# Altium integrated library ON Semi Schottky Diodes & Schottky Rectifiers.IntLib: 755 symbols (part 6 of 17)
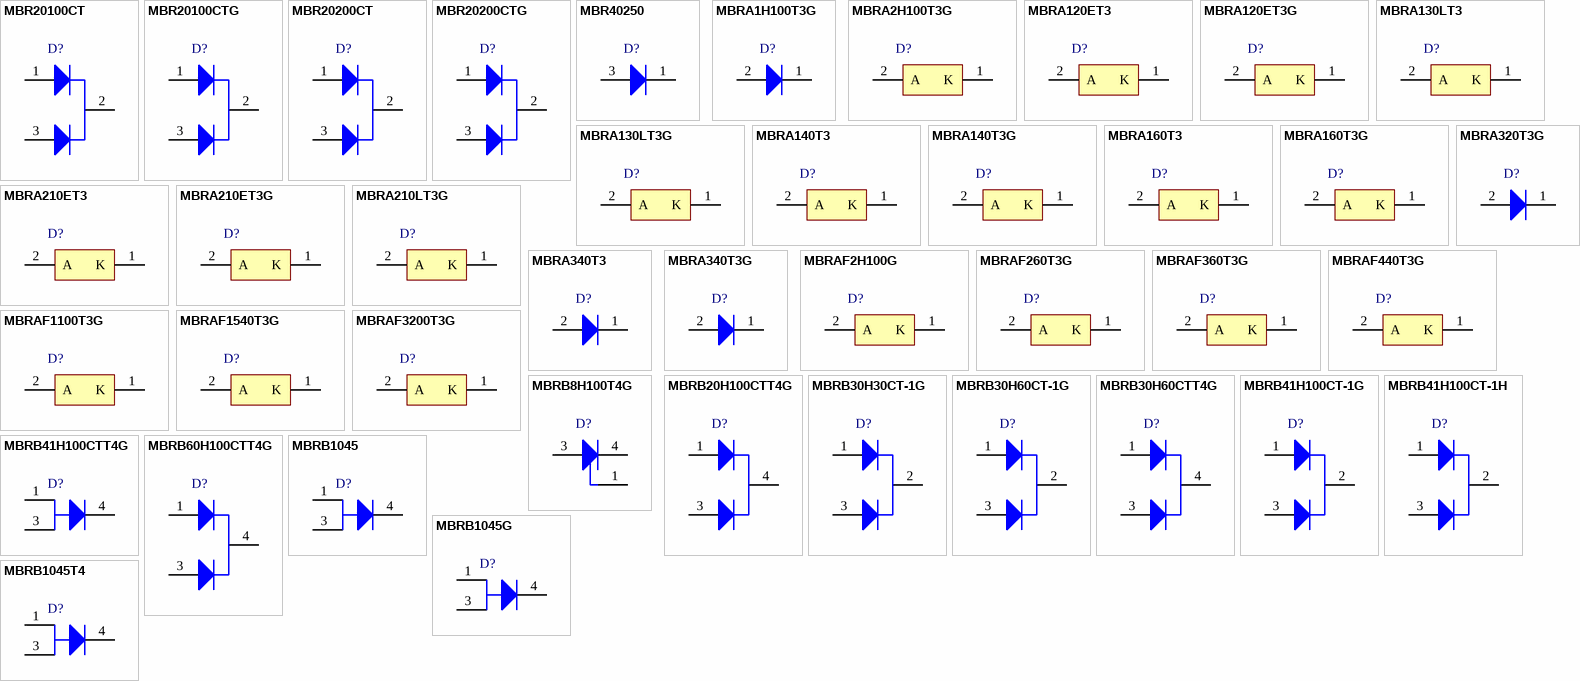
[diagram p24: symbols MBR20100CT to MBRB1045T4]

## MBRA130LT3G
designator D?
Schottky Power Rectifier, 2-Pin SMA, Pb-Free, Tape and Reel; Manufacturer: On Semiconductor; PartNumber: MBRA130LT3G; Configuration: Single; IFSM Max (A): 25; DatasheetVersion: Rev. 8; PackageVersion: Rev. F, 11/2008; PackageReference: SMA-2-403D-02_F; PackageDescription: 2-Pin Small Molded Package, J-Bend Lead, Body 2.605 x 4.315 mm; Supplier 1: Digi-Key; Supplier Part Number 1: MBRA130LT3GOSTR-ND; Supplier 2: Digi-Key; Supplier Part Number 2: MBRA130LT3GOSCT-ND; Supplier 3: Digi-Key; Supplier Part Number 3: MBRA130LT3GOSDKR-ND; Supplier 4: Farnell; Supplier Part Number 4: 9555978; Supplier 5: Farnell; Supplier Part Number 5: 9555978RL; Supplier 6: Newark; Supplier Part Number 6: 83H7265; Supplier 7: Newark; Supplier Part Number 7: 67R1304; Supplier 8: Mouser; Supplier Part Number 8: 863-MBRA130LT3G; Packing: Tape and Reel; RoHS: TRUE; Mounting Technology: Surface Mount; ComponentLink1Description: Manufacturer URL; ComponentLink1URL: http://www.onsemi.com/; ComponentLink2Description: Datasheet; ComponentLink2URL: http://www.onsemi.cn/pub_link/Collateral/MBRA130LT3-D.PDF; ComponentLink3Description: Package Specification; ComponentLink3URL: http://www.onsemi.com/pub_link/Collateral/1SMA5913BT3-D.PDF
footprint ONSC-SMA-2-403D-02_F_V (Molded, 2-Leads, Body 4.32x2.6mm)
pins: 1 K, 2 A

## MBRA140T3
designator D?
Schottky Power Rectifier, 2-Pin SMA, Tape and Reel; Manufacturer: On Semiconductor; PartNumber: MBRA140T3; Configuration: Single; IFSM Max (A): 30; DatasheetVersion: Rev. 10; PackageVersion: Rev. G, 07/2012; PackageReference: SMA-2-403D-02; PackageDescription: 2-Pin Small Molded Package, J-Bend Lead, Body 2.605 x 4.315 mm; Supplier 1: Digi-Key; Supplier Part Number 1: MBRA140T3OSCT-ND; Supplier 2: Digi-Key; Supplier Part Number 2: MBRA140T3OSDKR-ND; Packing: Tape and Reel; RoHS: FALSE; Mounting Technology: Surface Mount; ComponentLink1Description: Manufacturer URL; ComponentLink1URL: http://www.onsemi.com/; ComponentLink2Description: Datasheet; ComponentLink2URL: http://www.onsemi.cn/pub_link/Collateral/MBRA140T3-D.PDF; ComponentLink3Description: Package Specification; ComponentLink3URL: http://www.onsemi.com/pub_link/Collateral/403D-02.PDF
footprint ONSC-SMA-2-403D-02_V (Molded, 2-Leads, Body 4.57x2.92mm)
pins: 1 K, 2 A

## MBRA140T3G
designator D?
Schottky Power Rectifier, 2-Pin SMA, Pb-Free, Tape and Reel; Manufacturer: On Semiconductor; PartNumber: MBRA140T3G; Configuration: Single; IFSM Max (A): 30; DatasheetVersion: Rev. 10; PackageVersion: Rev. G, 07/2012; PackageReference: SMA-2-403D-02; PackageDescription: 2-Pin Small Molded Package, J-Bend Lead, Body 2.605 x 4.315 mm; Supplier 1: Digi-Key; Supplier Part Number 1: MBRA140T3GOSTR-ND; Supplier 2: Digi-Key; Supplier Part Number 2: MBRA140T3GOSCT-ND; Supplier 3: Digi-Key; Supplier Part Number 3: MBRA140T3GOSDKR-ND; Supplier 4: Farnell; Supplier Part Number 4: 1562287; Supplier 5: Farnell; Supplier Part Number 5: 9555986RL; Supplier 6: Farnell; Supplier Part Number 6: 9555986; Supplier 7: Newark; Supplier Part Number 7: 83H7266; Supplier 8: Newark; Supplier Part Number 8: 67R1305; Supplier 9: Mouser; Supplier Part Number 9: 863-MBRA140T3G; Packing: Tape and Reel; RoHS: TRUE; Mounting Technology: Surface Mount; ComponentLink1Description: Manufacturer URL; ComponentLink1URL: http://www.onsemi.com/; ComponentLink2Description: Datasheet; ComponentLink2URL: http://www.onsemi.cn/pub_link/Collateral/MBRA140T3-D.PDF; ComponentLink3Description: Package Specification; ComponentLink3URL: http://www.onsemi.com/pub_link/Collateral/403D-02.PDF
footprint ONSC-SMA-2-403D-02_V (Molded, 2-Leads, Body 4.57x2.92mm)
pins: 1 K, 2 A

## MBRA160T3
designator D?
Schottky Power Rectifier, 2-Pin SMA, Tape and Reel; Manufacturer: On Semiconductor; PartNumber: MBRA160T3; Note: 0; Configuration: Single; IFSM Max (A): 60; DatasheetVersion: Rev. 11; PackageVersion: Rev. G, 07/2012; PackageReference: SMA-2-403D-02; PackageDescription: 2-Pin Small Molded Package, J-Bend Lead, Body 2.605 x 4.315 mm; Packing: Tape and Reel; RoHS: FALSE; Mounting Technology: Surface Mount; ComponentLink1Description: Manufacturer URL; ComponentLink1URL: http://www.onsemi.com/; ComponentLink2Description: Datasheet; ComponentLink2URL: http://www.onsemi.cn/pub_link/Collateral/MBRA160T3-D.PDF; ComponentLink3Description: Package Specification; ComponentLink3URL: http://www.onsemi.com/pub_link/Collateral/403D-02.PDF
footprint ONSC-SMA-2-403D-02_V (Molded, 2-Leads, Body 4.57x2.92mm)
pins: 1 K, 2 A

## MBRA160T3G
designator D?
Schottky Power Rectifier, 2-Pin SMA, Pb-Free, Tape and Reel; Manufacturer: On Semiconductor; PartNumber: MBRA160T3G; Configuration: Single; IFSM Max (A): 60; DatasheetVersion: Rev. 11; PackageVersion: Rev. G, 07/2012; PackageReference: SMA-2-403D-02; PackageDescription: 2-Pin Small Molded Package, J-Bend Lead, Body 2.605 x 4.315 mm; Supplier 1: Digi-Key; Supplier Part Number 1: MBRA160T3GOSTR-ND; Supplier 2: Digi-Key; Supplier Part Number 2: MBRA160T3GOSCT-ND; Supplier 3: Digi-Key; Supplier Part Number 3: MBRA160T3GOSDKR-ND; Supplier 4: Farnell; Supplier Part Number 4: 1431076RL; Supplier 5: Farnell; Supplier Part Number 5: 2317684; Supplier 6: Farnell; Supplier Part Number 6: 1431076; Supplier 7: Newark; Supplier Part Number 7: 67R1306; Supplier 8: Newark; Supplier Part Number 8: 98H0582; Supplier 9: Mouser; Supplier Part Number 9: 863-MBRA160T3G; Packing: Tape and Reel; RoHS: TRUE; Mounting Technology: Surface Mount; ComponentLink1Description: Manufacturer URL; ComponentLink1URL: http://www.onsemi.com/; ComponentLink2Description: Datasheet; ComponentLink2URL: http://www.onsemi.cn/pub_link/Collateral/MBRA160T3-D.PDF; ComponentLink3Description: Package Specification; ComponentLink3URL: http://www.onsemi.com/pub_link/Collateral/403D-02.PDF
footprint ONSC-SMA-2-403D-02_V (Molded, 2-Leads, Body 4.57x2.92mm)
pins: 1 K, 2 A

## MBRA210ET3
designator D?
Schottky Power Rectifier, 2-Pin SMA, Tape and Reel; Manufacturer: On Semiconductor; PartNumber: MBRA210ET3; Configuration: Single; IFSM Max (A): 100; DatasheetVersion: Rev. 6; PackageVersion: Rev. D, 10/2007; PackageReference: SMA-2-403D-02_D; PackageDescription: 2-Pin Small Molded Package, J-Bend Lead, Body 4.315 x 2.605 mm; Supplier 1: Digi-Key; Supplier Part Number 1: MBRA210ET3OS-ND; Packing: Tape and Reel; RoHS: FALSE; Mounting Technology: Surface Mount; ComponentLink1Description: Manufacturer URL; ComponentLink1URL: http://www.onsemi.com/; ComponentLink2Description: Datasheet; ComponentLink2URL: http://www.onsemi.cn/pub_link/Collateral/MBRA210ET3-D.PDF; ComponentLink3Description: Package Specification; ComponentLink3URL: http://www.onsemi.cn/pub_link/Collateral/MBRA210ET3-D.PDF
footprint ONSC-SMA-2-403D-02_D_V (Molded, 2-Leads, Body 4.57x2.92mm)
pins: 1 K, 2 A

## MBRA210ET3G
designator D?
Schottky Power Rectifier, 2-Pin SMA, Pb-Free, Tape and Reel; Manufacturer: On Semiconductor; PartNumber: MBRA210ET3G; Configuration: Single; IFSM Max (A): 100; DatasheetVersion: Rev. 6; PackageVersion: Rev. D, 10/2007; PackageReference: SMA-2-403D-02_D; PackageDescription: 2-Pin Small Molded Package, J-Bend Lead, Body 4.315 x 2.605 mm; Supplier 1: Digi-Key; Supplier Part Number 1: MBRA210ET3GOSTR-ND; Supplier 2: Digi-Key; Supplier Part Number 2: MBRA210ET3GOSCT-ND; Supplier 3: Digi-Key; Supplier Part Number 3: MBRA210ET3GOSDKR-ND; Supplier 4: Farnell; Supplier Part Number 4: 1431077RL; Supplier 5: Farnell; Supplier Part Number 5: 1431077; Supplier 6: Newark; Supplier Part Number 6: 41K9970; Supplier 7: Mouser; Supplier Part Number 7: 863-MBRA210ET3G; Packing: Tape and Reel; RoHS: TRUE; Mounting Technology: Surface Mount; ComponentLink1Description: Manufacturer URL; ComponentLink1URL: http://www.onsemi.com/; ComponentLink2Description: Datasheet; ComponentLink2URL: http://www.onsemi.cn/pub_link/Collateral/MBRA210ET3-D.PDF; ComponentLink3Description: Package Specification; ComponentLink3URL: http://www.onsemi.cn/pub_link/Collateral/MBRA210ET3-D.PDF
footprint ONSC-SMA-2-403D-02_D_V (Molded, 2-Leads, Body 4.57x2.92mm)
pins: 1 K, 2 A

## MBRA210LT3G
designator D?
Schottky Power Rectifier, 2-Pin SMA, Pb-Free, Tape and Reel; Manufacturer: On Semiconductor; PartNumber: MBRA210LT3G; Configuration: Single; IFSM Max (A): 160; DatasheetVersion: Rev. 5; PackageVersion: Rev. F, 11/2008; PackageReference: SMA-2-403D-02_F; PackageDescription: 2-Pin Small Molded Package, J-Bend Lead, Body 2.605 x 4.315 mm; Supplier 1: Digi-Key; Supplier Part Number 1: MBRA210LT3GOSTR-ND; Supplier 2: Digi-Key; Supplier Part Number 2: MBRA210LT3GOSCT-ND; Supplier 3: Digi-Key; Supplier Part Number 3: MBRA210LT3GOSDKR-ND; Supplier 4: Farnell; Supplier Part Number 4: 1459060; Supplier 5: Farnell; Supplier Part Number 5: 1459060RL; Supplier 6: Newark; Supplier Part Number 6: 45J0773; Supplier 7: Mouser; Supplier Part Number 7: 863-MBRA210LT3G; Packing: Tape and Reel; RoHS: TRUE; Mounting Technology: Surface Mount; ComponentLink1Description: Manufacturer URL; ComponentLink1URL: http://www.onsemi.com/; ComponentLink2Description: Datasheet; ComponentLink2URL: http://www.onsemi.cn/pub_link/Collateral/MBRA210LT3-D.PDF; ComponentLink3Description: Package Specification; ComponentLink3URL: http://www.onsemi.com/pub_link/Collateral/1SMA5913BT3-D.PDF
footprint ONSC-SMA-2-403D-02_F_V (Molded, 2-Leads, Body 4.32x2.6mm)
pins: 1 K, 2 A

## MBRA320T3G
designator D?
Schottky Power Rectifier, 2-Pin SMA, Pb-Free, Tape and Reel; Manufacturer: On Semiconductor; PartNumber: MBRA320T3G; Configuration: Single; IFSM Max (A): 80; DatasheetVersion: Rev. 0; PackageVersion: Rev. C, 08/2005; PackageReference: SMA-2-403D-02_C; PackageDescription: 2-Pin Small Molded Package, J-Bend Lead, Body 4.315 x 2.605 mm; Supplier 1: Digi-Key; Supplier Part Number 1: MBRA320T3GOSTR-ND; Supplier 2: Digi-Key; Supplier Part Number 2: MBRA320T3GOSCT-ND; Supplier 3: Digi-Key; Supplier Part Number 3: MBRA320T3GOSDKR-ND; Supplier 4: Farnell; Supplier Part Number 4: 2101200; Supplier 5: Newark; Supplier Part Number 5: 95M6589; Supplier 6: Mouser; Supplier Part Number 6: 863-MBRA320T3G; Packing: Tape and Reel; RoHS: TRUE; Mounting Technology: Surface Mount; ComponentLink1Description: Manufacturer URL; ComponentLink1URL: http://www.onsemi.com/; ComponentLink2Description: Datasheet; ComponentLink2URL: http://www.onsemi.cn/pub_link/Collateral/MBRA320-D.PDF; ComponentLink3Description: Package Specification; ComponentLink3URL: http://www.onsemi.com/pub_link/Collateral/MBRA320-D.PDF
footprint ONSC-SMA-2-403D-02_C_V (Molded, 2-Leads, Body 4.57x2.92mm)
pins: 1 K, 2 A

## MBRA340T3
designator D?
Schottky Power Rectifier, 2-Pin SMA, Tape and Reel; Manufacturer: On Semiconductor; PartNumber: MBRA340T3; Configuration: Single; IFSM Max (A): 100; DatasheetVersion: Rev. 6; PackageVersion: Rev. F, 11/2008; PackageReference: SMA-2-403D-02_F; PackageDescription: 2-Pin Small Molded Package, J-Bend Lead, Body 2.605 x 4.315 mm; Supplier 1: Digi-Key; Supplier Part Number 1: MBRA340T3OSTR-ND; Supplier 2: Digi-Key; Supplier Part Number 2: MBRA340T3OSCT-ND; Supplier 3: Digi-Key; Supplier Part Number 3: MBRA340T3OSDKR-ND; Packing: Tape and Reel; RoHS: FALSE; Mounting Technology: Surface Mount; ComponentLink1Description: Manufacturer URL; ComponentLink1URL: http://www.onsemi.com/; ComponentLink2Description: Datasheet; ComponentLink2URL: http://www.onsemi.cn/pub_link/Collateral/MBRA340T3-D.PDF; ComponentLink3Description: Package Specification; ComponentLink3URL: http://www.onsemi.com/pub_link/Collateral/1SMA5913BT3-D.PDF
footprint ONSC-SMA-2-403D-02_F_V (Molded, 2-Leads, Body 4.32x2.6mm)
pins: 1 K, 2 A

## MBRA340T3G
designator D?
Schottky Power Rectifier, 2-Pin SMA, Pb-Free, Tape and Reel; Manufacturer: On Semiconductor; PartNumber: MBRA340T3G; Configuration: Single; IFSM Max (A): 100; DatasheetVersion: Rev. 6; PackageVersion: Rev. F, 11/2008; PackageReference: SMA-2-403D-02_F; PackageDescription: 2-Pin Small Molded Package, J-Bend Lead, Body 2.605 x 4.315 mm; Supplier 1: Digi-Key; Supplier Part Number 1: MBRA340T3GOSTR-ND; Supplier 2: Digi-Key; Supplier Part Number 2: MBRA340T3GOSCT-ND; Supplier 3: Digi-Key; Supplier Part Number 3: MBRA340T3GOSDKR-ND; Supplier 4: Farnell; Supplier Part Number 4: 1431078; Supplier 5: Farnell; Supplier Part Number 5: 1431078RL; Supplier 6: Farnell; Supplier Part Number 6: 2317677; Supplier 7: Newark; Supplier Part Number 7: 45J0774; Supplier 8: Newark; Supplier Part Number 8: 67R1307; Supplier 9: Newark; Supplier Part Number 9: 28X7852; Supplier 10: Mouser; Supplier Part Number 10: 863-MBRA340T3G; Packing: Tape and Reel; RoHS: TRUE; Mounting Technology: Surface Mount; ComponentLink1Description: Manufacturer URL; ComponentLink1URL: http://www.onsemi.com/; ComponentLink2Description: Datasheet; ComponentLink2URL: http://www.onsemi.cn/pub_link/Collateral/MBRA340T3-D.PDF; ComponentLink3Description: Package Specification; ComponentLink3URL: http://www.onsemi.com/pub_link/Collateral/1SMA5913BT3-D.PDF
footprint ONSC-SMA-2-403D-02_F_V (Molded, 2-Leads, Body 4.32x2.6mm)
pins: 1 K, 2 A

## MBRAF2H100G
designator D?
Schottky Power Rectifier, 2-Pin SMA, Pb-Free, Tape and Reel; Manufacturer: On Semiconductor; PartNumber: MBRAF2H100G; Note: 0; Configuration: Single; IFSM Max (A): 130; DatasheetVersion: Rev. 0; PackageVersion: Rev. O, 03/2011; PackageReference: SMA-FL-2-403AA-01; PackageDescription: 2-Pin Small Molded Package, Body 2.6 x 4.3 mm; Packing: Tape and Reel; RoHS: TRUE; Mounting Technology: Surface Mount; ComponentLink1Description: Manufacturer URL; ComponentLink1URL: http://www.onsemi.com/; ComponentLink2Description: Datasheet; ComponentLink2URL: http://www.onsemi.cn/pub_link/Collateral/MBRAF2H100-D.PDF; ComponentLink3Description: Package Specification; ComponentLink3URL: http://www.onsemi.com/pub_link/Collateral/403AA.PDF
footprint ONSC-SMA-FL-2-403AA-01_V (Molded, 2-Leads, Body 4.6x2.8mm)
pins: 1 K, 2 A

## MBRAF260T3G
designator D?
Schottky Power Rectifier, 2-Pin SMA, Pb-Free, Tape and Reel; Manufacturer: On Semiconductor; PartNumber: MBRAF260T3G; Note: 0; Configuration: Single; IFSM Max (A): 60; DatasheetVersion: Rev. 0; PackageVersion: Rev. O, 03/2011; PackageReference: SMA-FL-2-403AA-01; PackageDescription: 2-Pin Small Molded Package, Body 2.6 x 4.3 mm; Packing: Tape and Reel; RoHS: TRUE; Mounting Technology: Surface Mount; ComponentLink1Description: Manufacturer URL; ComponentLink1URL: http://www.onsemi.com/; ComponentLink2Description: Datasheet; ComponentLink2URL: http://www.onsemi.cn/pub_link/Collateral/MBRAF260-D.PDF; ComponentLink3Description: Package Specification; ComponentLink3URL: http://www.onsemi.com/pub_link/Collateral/403AA.PDF
footprint ONSC-SMA-FL-2-403AA-01_V (Molded, 2-Leads, Body 4.6x2.8mm)
pins: 1 K, 2 A

## MBRAF360T3G
designator D?
Schottky Power Rectifier, 2-Pin SMA, Pb-Free, Tape and Reel; Manufacturer: On Semiconductor; PartNumber: MBRAF360T3G; Note: 0; Configuration: Single; IFSM Max (A): 125; DatasheetVersion: Rev. 0; PackageVersion: Rev. O, 03/2011; PackageReference: SMA-FL-2-403AA-01; PackageDescription: 2-Pin Small Molded Package, Body 2.6 x 4.3 mm; Packing: Tape and Reel; RoHS: TRUE; Mounting Technology: Surface Mount; ComponentLink1Description: Manufacturer URL; ComponentLink1URL: http://www.onsemi.com/; ComponentLink2Description: Datasheet; ComponentLink2URL: http://www.onsemi.cn/pub_link/Collateral/MBRAF360-D.PDF; ComponentLink3Description: Package Specification; ComponentLink3URL: http://www.onsemi.com/pub_link/Collateral/403AA.PDF
footprint ONSC-SMA-FL-2-403AA-01_V (Molded, 2-Leads, Body 4.6x2.8mm)
pins: 1 K, 2 A

## MBRAF440T3G
designator D?
Schottky Power Rectifier, 2-Pin SMA, Pb-Free, Tape and Reel; Manufacturer: On Semiconductor; PartNumber: MBRAF440T3G; Configuration: Single; IFSM Max (A): 100; DatasheetVersion: Rev. 0; PackageVersion: Rev. O, 03/2011; PackageReference: SMA-FL-2-403AA-01; PackageDescription: 2-Pin Small Molded Package, Body 2.6 x 4.3 mm; Supplier 1: Newark; Supplier Part Number 1: 67W2533; Packing: Tape and Reel; RoHS: TRUE; Mounting Technology: Surface Mount; ComponentLink1Description: Manufacturer URL; ComponentLink1URL: http://www.onsemi.com/; ComponentLink2Description: Datasheet; ComponentLink2URL: http://www.onsemi.cn/pub_link/Collateral/MBRAF440T3-D.PDF; ComponentLink3Description: Package Specification; ComponentLink3URL: http://www.onsemi.com/pub_link/Collateral/403AA.PDF
footprint ONSC-SMA-FL-2-403AA-01_V (Molded, 2-Leads, Body 4.6x2.8mm)
pins: 1 K, 2 A

## MBRAF1100T3G
designator D?
Schottky Power Rectifier, 2-Pin SMA, Pb-Free, Tape and Reel; Manufacturer: On Semiconductor; PartNumber: MBRAF1100T3G; Note: 0; Configuration: Single; IFSM Max (A): 50; DatasheetVersion: Rev. 0; PackageVersion: Rev. O, 03/2011; PackageReference: SMA-FL-2-403AA-01; PackageDescription: 2-Pin Small Molded Package, Body 2.6 x 4.3 mm; Packing: Tape and Reel; RoHS: TRUE; Mounting Technology: Surface Mount; ComponentLink1Description: Manufacturer URL; ComponentLink1URL: http://www.onsemi.com/; ComponentLink2Description: Datasheet; ComponentLink2URL: http://www.onsemi.cn/pub_link/Collateral/MBRAF1100T3-D.PDF; ComponentLink3Description: Package Specification; ComponentLink3URL: http://www.onsemi.com/pub_link/Collateral/403AA.PDF
footprint ONSC-SMA-FL-2-403AA-01_V (Molded, 2-Leads, Body 4.6x2.8mm)
pins: 1 K, 2 A

## MBRAF1540T3G
designator D?
Schottky Power Rectifier, 2-Pin SMA, Pb-Free, Tape and Reel; Manufacturer: On Semiconductor; PartNumber: MBRAF1540T3G; Note: 0; Configuration: Single; IFSM Max (A): 40; DatasheetVersion: Rev. 1; PackageVersion: Rev. O, 03/2011; PackageReference: SMA-FL-2-403AA-01; PackageDescription: 2-Pin Small Molded Package, Body 2.6 x 4.3 mm; Packing: Tape and Reel; RoHS: TRUE; Mounting Technology: Surface Mount; ComponentLink1Description: Manufacturer URL; ComponentLink1URL: http://www.onsemi.com/; ComponentLink2Description: Datasheet; ComponentLink2URL: http://www.onsemi.cn/pub_link/Collateral/MBRAF1540-D.PDF; ComponentLink3Description: Package Specification; ComponentLink3URL: http://www.onsemi.com/pub_link/Collateral/403AA.PDF
footprint ONSC-SMA-FL-2-403AA-01_V (Molded, 2-Leads, Body 4.6x2.8mm)
pins: 1 K, 2 A

## MBRAF3200T3G
designator D?
Schottky Power Rectifier, 2-Pin SMA, Pb-Free, Tape and Reel; Manufacturer: On Semiconductor; PartNumber: MBRAF3200T3G; Note: 0; Configuration: Single; IFSM Max (A): 100; DatasheetVersion: Rev. 0; PackageVersion: Rev. O, 03/2011; PackageReference: SMA-FL-2-403AA-01; PackageDescription: 2-Pin Small Molded Package, Body 2.6 x 4.3 mm; Packing: Tape and Reel; RoHS: TRUE; Mounting Technology: Surface Mount; ComponentLink1Description: Manufacturer URL; ComponentLink1URL: http://www.onsemi.com/; ComponentLink2Description: Datasheet; ComponentLink2URL: http://www.onsemi.cn/pub_link/Collateral/MBRAF3200T3-D.PDF; ComponentLink3Description: Package Specification; ComponentLink3URL: http://www.onsemi.com/pub_link/Collateral/403AA.PDF
footprint ONSC-SMA-FL-2-403AA-01_V (Molded, 2-Leads, Body 4.6x2.8mm)
pins: 1 K, 2 A

## MBRB8H100T4G
designator D?
SWITCHMODE(TM) Schottky Power Rectifier, 3-Pin D2PAK, Pb-Free, Tape and Reel; Manufacturer: On Semiconductor; PartNumber: MBRB8H100T4G; Configuration: Single; IFSM Max (A): 250; DatasheetVersion: Rev. 4; PackageVersion: Rev. K, 09/2008; PackageReference: D2PAK-3-418B-04; PackageDescription: 3-Pin Flange Mount, Body 9.145 x 9.97 mm, Pitch 2.54 mm; Supplier 1: Digi-Key; Supplier Part Number 1: MBRB8H100T4GOSTR-ND; Supplier 2: Digi-Key; Supplier Part Number 2: MBRB8H100T4GOSCT-ND; Supplier 3: Digi-Key; Supplier Part Number 3: MBRB8H100T4GOSDKR-ND; Supplier 4: Newark; Supplier Part Number 4: 10N9414; Supplier 5: Newark; Supplier Part Number 5: 50M2083; Supplier 6: Mouser; Supplier Part Number 6: 863-MBRB8H100T4G; Packing: Tape and Reel; RoHS: TRUE; Mounting Technology: Surface Mount; ComponentLink1Description: Manufacturer URL; ComponentLink1URL: http://www.onsemi.com/; ComponentLink2Description: Datasheet; ComponentLink2URL: http://www.onsemi.cn/pub_link/Collateral/MBRB8H100-D.PDF; ComponentLink3Description: Package Specification; ComponentLink3URL: http://www.onsemi.com/pub_link/Collateral/418B-04.PDF
footprint ONSC-D2PAK-3-418B-04_V (DPAK, 3-Leads, Body 9.97x9.145mm, Pitch 2.54mm)
pins: 1 NC, 3 A, 4 K

## MBRB20H100CTT4G
designator D?
SWITCHMODE(TM) Power Rectifier, 100 V, 20 A, 3-Pin D2PAK, Pb-Free, Tape and Reel; Manufacturer: On Semiconductor; PartNumber: MBRB20H100CTT4G; Configuration: Common Cathode; IFSM Max (A): 250; DatasheetVersion: Rev. 11; PackageVersion: Rev. K, 09/2008; PackageReference: D2PAK-3-418B-04; PackageDescription: 3-Pin Flange Mount, Body 9.145 x 9.97 mm, Pitch 2.54 mm; Supplier 1: Digi-Key; Supplier Part Number 1: MBRB20H100CTT4GOSTR-ND; Supplier 2: Digi-Key; Supplier Part Number 2: MBRB20H100CTT4GOSCT-ND; Supplier 3: Digi-Key; Supplier Part Number 3: MBRB20H100CTT4GOSDKR-ND; Supplier 4: Farnell; Supplier Part Number 4: 2317409; Supplier 5: Newark; Supplier Part Number 5: 09R9418; Supplier 6: Newark; Supplier Part Number 6: 27M2470; Supplier 7: Mouser; Supplier Part Number 7: 863-MBRB20H100CTT4G; Packing: Tape and Reel; RoHS: TRUE; Mounting Technology: Surface Mount; ComponentLink1Description: Manufacturer URL; ComponentLink1URL: http://www.onsemi.com/; ComponentLink2Description: Datasheet; ComponentLink2URL: http://www.onsemi.cn/pub_link/Collateral/MBR20H100CT-D.PDF; ComponentLink3Description: Package Specification; ComponentLink3URL: http://www.onsemi.com/pub_link/Collateral/418B-04.PDF
footprint ONSC-D2PAK-3-418B-04_V (DPAK, 3-Leads, Body 9.97x9.145mm, Pitch 2.54mm)
pins: 1 A1, 3 A2, 4 K

## MBRB30H30CT-1G
designator D?
SWITCHMODE(TM) Power Rectifier, 30 V, 30 A, 3-Pin I2PAK, Pb-Free, Tube; Manufacturer: On Semiconductor; PartNumber: MBRB30H30CT-1G; Configuration: Common Cathode; IFSM Max (A): 260; DatasheetVersion: Rev. 5; PackageVersion: Rev. D, 10/2007; PackageReference: I2PAK-3-418D-01; PackageDescription: 3-Pin Flange Mount, Vertical Straight Lead, Body 9.98 x 4.38 mm, Pitch 2.54 mm; Supplier 1: Digi-Key; Supplier Part Number 1: MBRB30H30CT-1G-ND; Supplier 2: Mouser; Supplier Part Number 2: 863-MBRB30H30CT-1G; Packing: Tube; RoHS: TRUE; Mounting Technology: Through Hole; ComponentLink1Description: Manufacturer URL; ComponentLink1URL: http://www.onsemi.com/; ComponentLink2Description: Datasheet; ComponentLink2URL: http://www.onsemi.cn/pub_link/Collateral/MBRB30H30CT-1-D.PDF; ComponentLink3Description: Package Specification; ComponentLink3URL: http://www.onsemi.com/pub_link/Collateral/418D.PDF
footprint ONSC-I2PAK-3-418D-01 (FM, 3-Leads, Body 10.35x4.7mm, Pitch 2.54mm)
pins: 1 A1, 2 K, 3 A2

## MBRB30H60CT-1G
designator D?
SWITCHMODE(TM) Power Rectifier, 60 V, 30 A, 3-Pin I2PAK, Pb-Free, Tube; Manufacturer: On Semiconductor; PartNumber: MBRB30H60CT-1G; Configuration: Common Cathode; IFSM Max (A): 260; DatasheetVersion: Rev. 10; PackageVersion: Rev. D, 10/2007; PackageReference: I2PAK-3-418D-01; PackageDescription: 3-Pin Flange Mount, Vertical Straight Lead, Body 9.98 x 4.38 mm, Pitch 2.54 mm; Supplier 1: Digi-Key; Supplier Part Number 1: MBRB30H60CT-1G-ND; Supplier 2: Newark; Supplier Part Number 2: 20M3917; Supplier 3: Mouser; Supplier Part Number 3: 863-MBRB30H60CT-1G; Packing: Tube; RoHS: TRUE; Mounting Technology: Through Hole; ComponentLink1Description: Manufacturer URL; ComponentLink1URL: http://www.onsemi.com/; ComponentLink2Description: Datasheet; ComponentLink2URL: http://www.onsemi.cn/pub_link/Collateral/MBRB30H60CT-D.PDF; ComponentLink3Description: Package Specification; ComponentLink3URL: http://www.onsemi.com/pub_link/Collateral/418D.PDF
footprint ONSC-I2PAK-3-418D-01 (FM, 3-Leads, Body 10.35x4.7mm, Pitch 2.54mm)
pins: 1 A1, 2 K, 3 A2

## MBRB30H60CTT4G
designator D?
SWITCHMODE(TM) Power Rectifier, 60 V, 30 A, 3-Pin D2PAK, Pb-Free, Tape and Reel; Manufacturer: On Semiconductor; PartNumber: MBRB30H60CTT4G; Configuration: Common Cathode; IFSM Max (A): 260; DatasheetVersion: Rev. 10; PackageVersion: Rev. K, 09/2008; PackageReference: D2PAK-3-418B-04; PackageDescription: 3-Pin Flange Mount, Body 9.145 x 9.97 mm, Pitch 2.54 mm; Supplier 1: Digi-Key; Supplier Part Number 1: MBRB30H60CTT4GOSCT-ND; Supplier 2: Digi-Key; Supplier Part Number 2: MBRB30H60CTT4GOSDKR-ND; Supplier 3: Newark; Supplier Part Number 3: 01P4989; Supplier 4: Mouser; Supplier Part Number 4: 863-MBRB30H60CTT4G; Packing: Tape and Reel; RoHS: TRUE; Mounting Technology: Surface Mount; ComponentLink1Description: Manufacturer URL; ComponentLink1URL: http://www.onsemi.com/; ComponentLink2Description: Datasheet; ComponentLink2URL: http://www.onsemi.cn/pub_link/Collateral/MBRB30H60CT-D.PDF; ComponentLink3Description: Package Specification; ComponentLink3URL: http://www.onsemi.com/pub_link/Collateral/418B-04.PDF
footprint ONSC-D2PAK-3-418B-04_V (DPAK, 3-Leads, Body 9.97x9.145mm, Pitch 2.54mm)
pins: 1 A1, 3 A2, 4 K

## MBRB41H100CT-1G
designator D?
SWITCHMODE(TM) Power Rectifier, 100 V, 40 A, 3-Pin I2PAK, Pb-Free, Tube; Manufacturer: On Semiconductor; PartNumber: MBRB41H100CT-1G; Configuration: Common Cathode; IFSM Max (A): 350; DatasheetVersion: Rev. 8; PackageVersion: Rev. D, 10/2007; PackageReference: I2PAK-3-418D-01; PackageDescription: 3-Pin Flange Mount, Vertical Straight Lead, Body 9.98 x 4.38 mm, Pitch 2.54 mm; Supplier 1: Digi-Key; Supplier Part Number 1: MBRB41H100CT-1G-ND; Supplier 2: Newark; Supplier Part Number 2: 50M2082; Supplier 3: Mouser; Supplier Part Number 3: 863-MBRB41H100CT-1G; Packing: Tube; RoHS: TRUE; Mounting Technology: Through Hole; ComponentLink1Description: Manufacturer URL; ComponentLink1URL: http://www.onsemi.com/; ComponentLink2Description: Datasheet; ComponentLink2URL: http://www.onsemi.cn/pub_link/Collateral/MBR41H100CT-D.PDF; ComponentLink3Description: Package Specification; ComponentLink3URL: http://www.onsemi.com/pub_link/Collateral/418D.PDF
footprint ONSC-I2PAK-3-418D-01 (FM, 3-Leads, Body 10.35x4.7mm, Pitch 2.54mm)
pins: 1 A1, 2 K, 3 A2

## MBRB41H100CT-1H
designator D?
SWITCHMODE(TM) Power Rectifier, 100 V, 40 A, 3-Pin I2PAK, Pb-Free, Tube; Manufacturer: On Semiconductor; PartNumber: MBRB41H100CT-1H; Note: 0; Configuration: Common Cathode; IFSM Max (A): 350; DatasheetVersion: Rev. 8; PackageVersion: Rev. D, 10/2007; PackageReference: I2PAK-3-418D-01; PackageDescription: 3-Pin Flange Mount, Vertical Straight Lead, Body 9.98 x 4.38 mm, Pitch 2.54 mm; Packing: Tube; RoHS: TRUE; Mounting Technology: Through Hole; ComponentLink1Description: Manufacturer URL; ComponentLink1URL: http://www.onsemi.com/; ComponentLink2Description: Datasheet; ComponentLink2URL: http://www.onsemi.cn/pub_link/Collateral/MBR41H100CT-D.PDF; ComponentLink3Description: Package Specification; ComponentLink3URL: http://www.onsemi.com/pub_link/Collateral/418D.PDF
footprint ONSC-I2PAK-3-418D-01 (FM, 3-Leads, Body 10.35x4.7mm, Pitch 2.54mm)
pins: 1 A1, 2 K, 3 A2

## MBRB41H100CTT4G
designator D?
SWITCHMODE(TM) Power Rectifier, 100 V, 40 A, 3-Pin D2PAK, Pb-Free, Tape and Reel; Manufacturer: On Semiconductor; PartNumber: MBRB41H100CTT4G; Configuration: Common Cathode; IFSM Max (A): 350; DatasheetVersion: Rev. 8; PackageVersion: Rev. K, 09/2008; PackageReference: D2PAK-3-418B-04; PackageDescription: 3-Pin Flange Mount, Body 9.145 x 9.97 mm, Pitch 2.54 mm; Supplier 1: Digi-Key; Supplier Part Number 1: MBRB41H100CTT4GOSTR-ND; Supplier 2: Digi-Key; Supplier Part Number 2: MBRB41H100CTT4GOSCT-ND; Supplier 3: Digi-Key; Supplier Part Number 3: MBRB41H100CTT4GOSDKR-ND; Supplier 4: Farnell; Supplier Part Number 4: 1431026RL; Supplier 5: Farnell; Supplier Part Number 5: 1431026; Supplier 6: Farnell; Supplier Part Number 6: 2369257; Supplier 7: Newark; Supplier Part Number 7: 09R9420; Supplier 8: Newark; Supplier Part Number 8: 34M7321; Supplier 9: Mouser; Supplier Part Number 9: 863-MBRB41H100CTT4G; Packing: Tape and Reel; RoHS: TRUE; Mounting Technology: Surface Mount; ComponentLink1Description: Manufacturer URL; ComponentLink1URL: http://www.onsemi.com/; ComponentLink2Description: Datasheet; ComponentLink2URL: http://www.onsemi.cn/pub_link/Collateral/MBR41H100CT-D.PDF; ComponentLink3Description: Package Specification; ComponentLink3URL: http://www.onsemi.com/pub_link/Collateral/418B-04.PDF
footprint ONSC-D2PAK-3-418B-04_V (DPAK, 3-Leads, Body 9.97x9.145mm, Pitch 2.54mm)
pins: 1 A, 3 A, 4 K

## MBRB60H100CTT4G
designator D?
SWITCHMODE(TM) Power Rectifier, 100 V, 60 A, 3-Pin D2PAK, Pb-Free, Tape and Reel; Manufacturer: On Semiconductor; PartNumber: MBRB60H100CTT4G; Configuration: Common Cathode; IFSM Max (A): 350; DatasheetVersion: Rev. 5; PackageVersion: Rev. K, 09/2008; PackageReference: D2PAK-3-418B-04; PackageDescription: 3-Pin Flange Mount, Body 9.145 x 9.97 mm, Pitch 2.54 mm; Supplier 1: Digi-Key; Supplier Part Number 1: MBRB60H100CTT4GOSTR-ND; Supplier 2: Digi-Key; Supplier Part Number 2: MBRB60H100CTT4GOSCT-ND; Supplier 3: Digi-Key; Supplier Part Number 3: MBRB60H100CTT4GOSDKR-ND; Supplier 4: Farnell; Supplier Part Number 4: 2317408; Supplier 5: Newark; Supplier Part Number 5: 09R9421; Supplier 6: Newark; Supplier Part Number 6: 75M4781; Supplier 7: Mouser; Supplier Part Number 7: 863-MBRB60H100CTT4G; Packing: Tape and Reel; RoHS: TRUE; Mounting Technology: Surface Mount; ComponentLink1Description: Manufacturer URL; ComponentLink1URL: http://www.onsemi.com/; ComponentLink2Description: Datasheet; ComponentLink2URL: http://www.onsemi.cn/pub_link/Collateral/MBR60H100CT-D.PDF; ComponentLink3Description: Package Specification; ComponentLink3URL: http://www.onsemi.com/pub_link/Collateral/418B-04.PDF
footprint ONSC-D2PAK-3-418B-04_V (DPAK, 3-Leads, Body 9.97x9.145mm, Pitch 2.54mm)
pins: 1 A1, 3 A2, 4 K

## MBRB1045
designator D?
SWITCHMODE(TM) Schottky Power Rectifier, 3-Pin D2PAK, Tube; Manufacturer: On Semiconductor; PartNumber: MBRB1045; Configuration: Single; IFSM Max (A): 150; DatasheetVersion: Rev. 8; PackageVersion: Rev. K, 09/2008; PackageReference: D2PAK-3-418B-04; PackageDescription: 3-Pin Flange Mount, Body 9.145 x 9.97 mm, Pitch 2.54 mm; Supplier 1: Digi-Key; Supplier Part Number 1: MBRB1045OS-ND; Packing: Tube; RoHS: FALSE; Mounting Technology: Surface Mount; ComponentLink1Description: Manufacturer URL; ComponentLink1URL: http://www.onsemi.com/; ComponentLink2Description: Datasheet; ComponentLink2URL: http://www.onsemi.cn/pub_link/Collateral/MBRB1045-D.PDF; ComponentLink3Description: Package Specification; ComponentLink3URL: http://www.onsemi.com/pub_link/Collateral/418B-04.PDF
footprint ONSC-D2PAK-3-418B-04_V (DPAK, 3-Leads, Body 9.97x9.145mm, Pitch 2.54mm)
pins: 1 A, 3 A, 4 K

## MBRB1045G
designator D?
SWITCHMODE(TM) Schottky Power Rectifier, 3-Pin D2PAK, Pb-Free, Tube; Manufacturer: On Semiconductor; PartNumber: MBRB1045G; Configuration: Single; IFSM Max (A): 150; DatasheetVersion: Rev. 8; PackageVersion: Rev. K, 09/2008; PackageReference: D2PAK-3-418B-04; PackageDescription: 3-Pin Flange Mount, Body 9.145 x 9.97 mm, Pitch 2.54 mm; Supplier 1: Digi-Key; Supplier Part Number 1: MBRB1045GOS-ND; Supplier 2: Farnell; Supplier Part Number 2: 1431081; Supplier 3: Newark; Supplier Part Number 3: 41K9971; Supplier 4: Mouser; Supplier Part Number 4: 863-MBRB1045G; Packing: Tube; RoHS: TRUE; Mounting Technology: Surface Mount; ComponentLink1Description: Manufacturer URL; ComponentLink1URL: http://www.onsemi.com/; ComponentLink2Description: Datasheet; ComponentLink2URL: http://www.onsemi.cn/pub_link/Collateral/MBRB1045-D.PDF; ComponentLink3Description: Package Specification; ComponentLink3URL: http://www.onsemi.com/pub_link/Collateral/418B-04.PDF
footprint ONSC-D2PAK-3-418B-04_V (DPAK, 3-Leads, Body 9.97x9.145mm, Pitch 2.54mm)
pins: 1 A, 3 A, 4 K

## MBRB1045T4
designator D?
SWITCHMODE(TM) Schottky Power Rectifier, 3-Pin D2PAK, Tape and Reel; Manufacturer: On Semiconductor; PartNumber: MBRB1045T4; Note: 0; Configuration: Single; IFSM Max (A): 150; DatasheetVersion: Rev. 8; PackageVersion: Rev. K, 09/2008; PackageReference: D2PAK-3-418B-04; PackageDescription: 3-Pin Flange Mount, Body 9.145 x 9.97 mm, Pitch 2.54 mm; Packing: Tape and Reel; RoHS: FALSE; Mounting Technology: Surface Mount; ComponentLink1Description: Manufacturer URL; ComponentLink1URL: http://www.onsemi.com/; ComponentLink2Description: Datasheet; ComponentLink2URL: http://www.onsemi.cn/pub_link/Collateral/MBRB1045-D.PDF; ComponentLink3Description: Package Specification; ComponentLink3URL: http://www.onsemi.com/pub_link/Collateral/418B-04.PDF
footprint ONSC-D2PAK-3-418B-04_V (DPAK, 3-Leads, Body 9.97x9.145mm, Pitch 2.54mm)
pins: 1 A, 3 A, 4 K

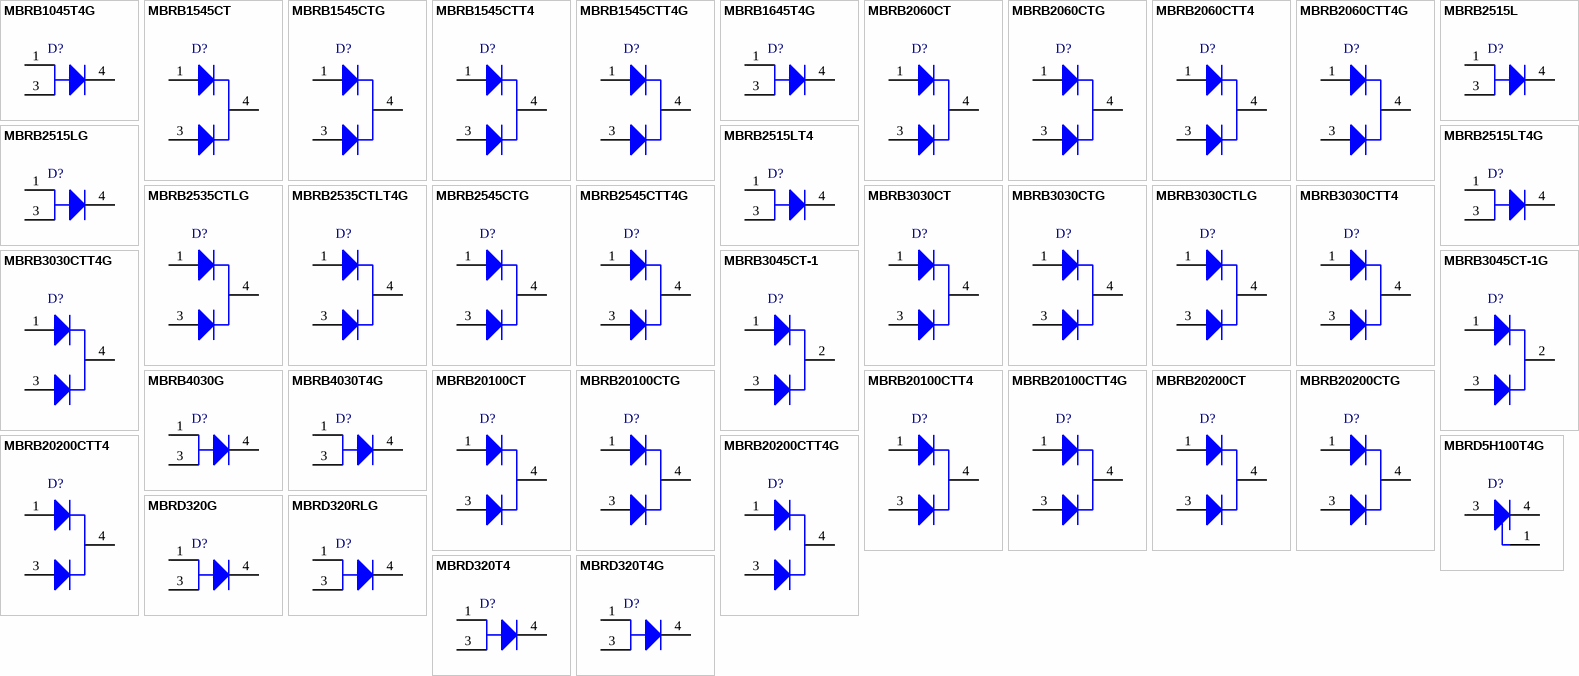
[diagram p7: symbols MBRB1045T4G to MBRD320T4G]

## MBRB1045T4G
designator D?
SWITCHMODE(TM) Schottky Power Rectifier, 3-Pin D2PAK, Pb-Free, Tape and Reel; Manufacturer: On Semiconductor; PartNumber: MBRB1045T4G; Configuration: Single; IFSM Max (A): 150; DatasheetVersion: Rev. 8; PackageVersion: Rev. K, 09/2008; PackageReference: D2PAK-3-418B-04; PackageDescription: 3-Pin Flange Mount, Body 9.145 x 9.97 mm, Pitch 2.54 mm; Supplier 1: Digi-Key; Supplier Part Number 1: MBRB1045T4GOSTR-ND; Supplier 2: Digi-Key; Supplier Part Number 2: MBRB1045T4GOSCT-ND; Supplier 3: Digi-Key; Supplier Part Number 3: MBRB1045T4GOSDKR-ND; Supplier 4: Farnell; Supplier Part Number 4: 1888622; Supplier 5: Newark; Supplier Part Number 5: 10N9411; Supplier 6: Newark; Supplier Part Number 6: 41K9972; Supplier 7: Mouser; Supplier Part Number 7: 863-MBRB1045T4G; Packing: Tape and Reel; RoHS: TRUE; Mounting Technology: Surface Mount; ComponentLink1Description: Manufacturer URL; ComponentLink1URL: http://www.onsemi.com/; ComponentLink2Description: Datasheet; ComponentLink2URL: http://www.onsemi.cn/pub_link/Collateral/MBRB1045-D.PDF; ComponentLink3Description: Package Specification; ComponentLink3URL: http://www.onsemi.com/pub_link/Collateral/418B-04.PDF
footprint ONSC-D2PAK-3-418B-04_V (DPAK, 3-Leads, Body 9.97x9.145mm, Pitch 2.54mm)
pins: 1 A, 3 A, 4 K

## MBRB1545CT
designator D?
SWITCHMODE(TM) Power Rectifier, 3-Pin D2PAK, Tube; Manufacturer: On Semiconductor; PartNumber: MBRB1545CT; Configuration: Common Cathode; IFSM Max (A): 150; DatasheetVersion: Rev. 13; PackageVersion: Rev. K, 09/2008; PackageReference: D2PAK-3-418B-04; PackageDescription: 3-Pin Flange Mount, Body 9.145 x 9.97 mm, Pitch 2.54 mm; Supplier 1: Digi-Key; Supplier Part Number 1: MBRB1545CTOS-ND; Packing: Tube; RoHS: FALSE; Mounting Technology: Surface Mount; ComponentLink1Description: Manufacturer URL; ComponentLink1URL: http://www.onsemi.com/; ComponentLink2Description: Datasheet; ComponentLink2URL: http://www.onsemi.cn/pub_link/Collateral/MBRB1545CT-D.PDF; ComponentLink3Description: Package Specification; ComponentLink3URL: http://www.onsemi.com/pub_link/Collateral/418B-04.PDF
footprint ONSC-D2PAK-3-418B-04_V (DPAK, 3-Leads, Body 9.97x9.145mm, Pitch 2.54mm)
pins: 1 A1, 3 A2, 4 K

## MBRB1545CTG
designator D?
SWITCHMODE(TM) Power Rectifier, 3-Pin D2PAK, Pb-Free, Tube; Manufacturer: On Semiconductor; PartNumber: MBRB1545CTG; Configuration: Common Cathode; IFSM Max (A): 150; DatasheetVersion: Rev. 13; PackageVersion: Rev. K, 09/2008; PackageReference: D2PAK-3-418B-04; PackageDescription: 3-Pin Flange Mount, Body 9.145 x 9.97 mm, Pitch 2.54 mm; Supplier 1: Digi-Key; Supplier Part Number 1: MBRB1545CTGOS-ND; Supplier 2: Farnell; Supplier Part Number 2: 1431082; Supplier 3: Newark; Supplier Part Number 3: 45J0775; Supplier 4: Mouser; Supplier Part Number 4: 863-MBRB1545CTG; Packing: Tube; RoHS: TRUE; Mounting Technology: Surface Mount; ComponentLink1Description: Manufacturer URL; ComponentLink1URL: http://www.onsemi.com/; ComponentLink2Description: Datasheet; ComponentLink2URL: http://www.onsemi.cn/pub_link/Collateral/MBRB1545CT-D.PDF; ComponentLink3Description: Package Specification; ComponentLink3URL: http://www.onsemi.com/pub_link/Collateral/418B-04.PDF
footprint ONSC-D2PAK-3-418B-04_V (DPAK, 3-Leads, Body 9.97x9.145mm, Pitch 2.54mm)
pins: 1 A1, 3 A2, 4 K

## MBRB1545CTT4
designator D?
SWITCHMODE(TM) Power Rectifier, 3-Pin D2PAK, Tape and Reel; Manufacturer: On Semiconductor; PartNumber: MBRB1545CTT4; Configuration: Common Cathode; IFSM Max (A): 150; DatasheetVersion: Rev. 13; PackageVersion: Rev. K, 09/2008; PackageReference: D2PAK-3-418B-04; PackageDescription: 3-Pin Flange Mount, Body 9.145 x 9.97 mm, Pitch 2.54 mm; Supplier 1: Digi-Key; Supplier Part Number 1: MBRB1545CTT4OSCT-ND; Packing: Tape and Reel; RoHS: FALSE; Mounting Technology: Surface Mount; ComponentLink1Description: Manufacturer URL; ComponentLink1URL: http://www.onsemi.com/; ComponentLink2Description: Datasheet; ComponentLink2URL: http://www.onsemi.cn/pub_link/Collateral/MBRB1545CT-D.PDF; ComponentLink3Description: Package Specification; ComponentLink3URL: http://www.onsemi.com/pub_link/Collateral/418B-04.PDF
footprint ONSC-D2PAK-3-418B-04_V (DPAK, 3-Leads, Body 9.97x9.145mm, Pitch 2.54mm)
pins: 1 A1, 3 A2, 4 K

## MBRB1545CTT4G
designator D?
SWITCHMODE(TM) Power Rectifier, 3-Pin D2PAK, Pb-Free, Tape and Reel; Manufacturer: On Semiconductor; PartNumber: MBRB1545CTT4G; Configuration: Common Cathode; IFSM Max (A): 150; DatasheetVersion: Rev. 13; PackageVersion: Rev. K, 09/2008; PackageReference: D2PAK-3-418B-04; PackageDescription: 3-Pin Flange Mount, Body 9.145 x 9.97 mm, Pitch 2.54 mm; Supplier 1: Digi-Key; Supplier Part Number 1: MBRB1545CTT4GOSTR-ND; Supplier 2: Digi-Key; Supplier Part Number 2: MBRB1545CTT4GOSCT-ND; Supplier 3: Digi-Key; Supplier Part Number 3: MBRB1545CTT4GOSDKR-ND; Supplier 4: Farnell; Supplier Part Number 4: 2317423; Supplier 5: Newark; Supplier Part Number 5: 10N9412; Supplier 6: Newark; Supplier Part Number 6: 98H0583; Supplier 7: Mouser; Supplier Part Number 7: 863-MBRB1545CTT4G; Packing: Tape and Reel; RoHS: TRUE; Mounting Technology: Surface Mount; ComponentLink1Description: Manufacturer URL; ComponentLink1URL: http://www.onsemi.com/; ComponentLink2Description: Datasheet; ComponentLink2URL: http://www.onsemi.cn/pub_link/Collateral/MBRB1545CT-D.PDF; ComponentLink3Description: Package Specification; ComponentLink3URL: http://www.onsemi.com/pub_link/Collateral/418B-04.PDF
footprint ONSC-D2PAK-3-418B-04_V (DPAK, 3-Leads, Body 9.97x9.145mm, Pitch 2.54mm)
pins: 1 A1, 3 A2, 4 K

## MBRB1645T4G
designator D?
SWITCHMODE(TM) Power Rectifier, 45 V, 3-Pin D2PAK, Pb-Free, Tube; Manufacturer: On Semiconductor; PartNumber: MBRB1645T4G; Configuration: Single; IFSM Max (A): 150; DatasheetVersion: Rev. 11; PackageVersion: Rev. J, 08/2004; PackageReference: D2PAK-3-418B-04_J; PackageDescription: 3-Pin D2PAK, Body 9.145 x 9.97 mm, Pitch 2.54 mm; Supplier 1: Digi-Key; Supplier Part Number 1: MBRB1645T4GOSTR-ND; Supplier 2: Digi-Key; Supplier Part Number 2: MBRB1645T4GOSCT-ND; Supplier 3: Digi-Key; Supplier Part Number 3: MBRB1645T4GOSDKR-ND; Supplier 4: Farnell; Supplier Part Number 4: 1887076; Supplier 5: Newark; Supplier Part Number 5: 09R9417; Supplier 6: Newark; Supplier Part Number 6: 02M9749; Supplier 7: Mouser; Supplier Part Number 7: 863-MBRB1645T4G; Packing: Tube; RoHS: TRUE; Mounting Technology: Surface Mount; ComponentLink1Description: Manufacturer URL; ComponentLink1URL: http://www.onsemi.com/; ComponentLink2Description: Datasheet; ComponentLink2URL: http://www.onsemi.cn/pub_link/Collateral/MBR1635-D.PDF; ComponentLink3Description: Package Specification; ComponentLink3URL: http://www.onsemi.com/pub_link/Collateral/BUB323Z-D.PDF
footprint ONSC-D2PAK-3-418B-04_J_V (FM, 3-Leads, Body 9.97x9.145mm, Pitch 2.54mm)
pins: 1 A, 3 A, 4 K

## MBRB2060CT
designator D?
SWITCHMODE(TM) Power Rectifier, 3-Pin D2PAK, Tube; Manufacturer: On Semiconductor; PartNumber: MBRB2060CT; Configuration: Common Cathode; IFSM Max (A): 150; DatasheetVersion: Rev. 9; PackageVersion: Rev. K, 09/2008; PackageReference: D2PAK-3-418B-04; PackageDescription: 3-Pin Flange Mount, Body 9.145 x 9.97 mm, Pitch 2.54 mm; Supplier 1: Digi-Key; Supplier Part Number 1: MBRB2060CT-ND; Packing: Tube; RoHS: FALSE; Mounting Technology: Surface Mount; ComponentLink1Description: Manufacturer URL; ComponentLink1URL: http://www.onsemi.com/; ComponentLink2Description: Datasheet; ComponentLink2URL: http://www.onsemi.cn/pub_link/Collateral/MBRB2060CT-D.PDF; ComponentLink3Description: Package Specification; ComponentLink3URL: http://www.onsemi.com/pub_link/Collateral/418B-04.PDF
footprint ONSC-D2PAK-3-418B-04_V (DPAK, 3-Leads, Body 9.97x9.145mm, Pitch 2.54mm)
pins: 1 A1, 3 A2, 4 K

## MBRB2060CTG
designator D?
SWITCHMODE(TM) Power Rectifier, 3-Pin D2PAK, Pb-Free, Tube; Manufacturer: On Semiconductor; PartNumber: MBRB2060CTG; Configuration: Common Cathode; IFSM Max (A): 150; DatasheetVersion: Rev. 9; PackageVersion: Rev. K, 09/2008; PackageReference: D2PAK-3-418B-04; PackageDescription: 3-Pin Flange Mount, Body 9.145 x 9.97 mm, Pitch 2.54 mm; Supplier 1: Digi-Key; Supplier Part Number 1: MBRB2060CTGOS-ND; Supplier 2: Farnell; Supplier Part Number 2: 1431084; Supplier 3: Newark; Supplier Part Number 3: 26K3674; Supplier 4: Mouser; Supplier Part Number 4: 863-MBRB2060CTG; Packing: Tube; RoHS: TRUE; Mounting Technology: Surface Mount; ComponentLink1Description: Manufacturer URL; ComponentLink1URL: http://www.onsemi.com/; ComponentLink2Description: Datasheet; ComponentLink2URL: http://www.onsemi.cn/pub_link/Collateral/MBRB2060CT-D.PDF; ComponentLink3Description: Package Specification; ComponentLink3URL: http://www.onsemi.com/pub_link/Collateral/418B-04.PDF
footprint ONSC-D2PAK-3-418B-04_V (DPAK, 3-Leads, Body 9.97x9.145mm, Pitch 2.54mm)
pins: 1 A1, 3 A2, 4 K

## MBRB2060CTT4
designator D?
SWITCHMODE(TM) Power Rectifier, 3-Pin D2PAK, Tape and Reel; Manufacturer: On Semiconductor; PartNumber: MBRB2060CTT4; Note: 0; Configuration: Common Cathode; IFSM Max (A): 150; DatasheetVersion: Rev. 9; PackageVersion: Rev. K, 09/2008; PackageReference: D2PAK-3-418B-04; PackageDescription: 3-Pin Flange Mount, Body 9.145 x 9.97 mm, Pitch 2.54 mm; Packing: Tape and Reel; RoHS: FALSE; Mounting Technology: Surface Mount; ComponentLink1Description: Manufacturer URL; ComponentLink1URL: http://www.onsemi.com/; ComponentLink2Description: Datasheet; ComponentLink2URL: http://www.onsemi.cn/pub_link/Collateral/MBRB2060CT-D.PDF; ComponentLink3Description: Package Specification; ComponentLink3URL: http://www.onsemi.com/pub_link/Collateral/418B-04.PDF
footprint ONSC-D2PAK-3-418B-04_V (DPAK, 3-Leads, Body 9.97x9.145mm, Pitch 2.54mm)
pins: 1 A1, 3 A2, 4 K

## MBRB2060CTT4G
designator D?
SWITCHMODE(TM) Power Rectifier, 3-Pin D2PAK, Pb-Free, Tape and Reel; Manufacturer: On Semiconductor; PartNumber: MBRB2060CTT4G; Configuration: Common Cathode; IFSM Max (A): 150; DatasheetVersion: Rev. 9; PackageVersion: Rev. K, 09/2008; PackageReference: D2PAK-3-418B-04; PackageDescription: 3-Pin Flange Mount, Body 9.145 x 9.97 mm, Pitch 2.54 mm; Supplier 1: Digi-Key; Supplier Part Number 1: MBRB2060CTT4GOSTR-ND; Supplier 2: Digi-Key; Supplier Part Number 2: MBRB2060CTT4GOSCT-ND; Supplier 3: Newark; Supplier Part Number 3: 26K3675; Supplier 4: Mouser; Supplier Part Number 4: 863-MBRB2060CTT4G; Packing: Tape and Reel; RoHS: TRUE; Mounting Technology: Surface Mount; ComponentLink1Description: Manufacturer URL; ComponentLink1URL: http://www.onsemi.com/; ComponentLink2Description: Datasheet; ComponentLink2URL: http://www.onsemi.cn/pub_link/Collateral/MBRB2060CT-D.PDF; ComponentLink3Description: Package Specification; ComponentLink3URL: http://www.onsemi.com/pub_link/Collateral/418B-04.PDF
footprint ONSC-D2PAK-3-418B-04_V (DPAK, 3-Leads, Body 9.97x9.145mm, Pitch 2.54mm)
pins: 1 A1, 3 A2, 4 K

## MBRB2515L
designator D?
SWITCHMODE(TM) Power Rectifier ORing Function Diode, 3-Pin D2PAK, Tube; Manufacturer: On Semiconductor; PartNumber: MBRB2515L; Configuration: Single; IFSM Max (A): 150; DatasheetVersion: Rev. 6; PackageVersion: Rev. J, 08/2004; PackageReference: D2PAK-3-418B-04_J; PackageDescription: 3-Pin D2PAK, Body 9.145 x 9.97 mm, Pitch 2.54 mm; Supplier 1: Digi-Key; Supplier Part Number 1: MBRB2515L-ND; Packing: Tube; RoHS: FALSE; Mounting Technology: Surface Mount; ComponentLink1Description: Manufacturer URL; ComponentLink1URL: http://www.onsemi.com/; ComponentLink2Description: Datasheet; ComponentLink2URL: http://www.onsemi.cn/pub_link/Collateral/MBRB2515L-D.PDF; ComponentLink3Description: Package Specification; ComponentLink3URL: http://www.onsemi.com/pub_link/Collateral/BUB323Z-D.PDF
footprint ONSC-D2PAK-3-418B-04_J_V (FM, 3-Leads, Body 9.97x9.145mm, Pitch 2.54mm)
pins: 1 A, 3 A, 4 K

## MBRB2515LG
designator D?
SWITCHMODE(TM) Power Rectifier ORing Function Diode, 3-Pin D2PAK, Pb-Free, Tube; Manufacturer: On Semiconductor; PartNumber: MBRB2515LG; Configuration: Single; IFSM Max (A): 150; DatasheetVersion: Rev. 6; PackageVersion: Rev. J, 08/2004; PackageReference: D2PAK-3-418B-04_J; PackageDescription: 3-Pin D2PAK, Body 9.145 x 9.97 mm, Pitch 2.54 mm; Supplier 1: Digi-Key; Supplier Part Number 1: MBRB2515LGOS-ND; Supplier 2: Farnell; Supplier Part Number 2: 1431085; Supplier 3: Newark; Supplier Part Number 3: 98H0585; Supplier 4: Mouser; Supplier Part Number 4: 863-MBRB2515LG; Packing: Tube; RoHS: TRUE; Mounting Technology: Surface Mount; ComponentLink1Description: Manufacturer URL; ComponentLink1URL: http://www.onsemi.com/; ComponentLink2Description: Datasheet; ComponentLink2URL: http://www.onsemi.cn/pub_link/Collateral/MBRB2515L-D.PDF; ComponentLink3Description: Package Specification; ComponentLink3URL: http://www.onsemi.com/pub_link/Collateral/BUB323Z-D.PDF
footprint ONSC-D2PAK-3-418B-04_J_V (FM, 3-Leads, Body 9.97x9.145mm, Pitch 2.54mm)
pins: 1 A, 3 A, 4 K

## MBRB2515LT4
designator D?
SWITCHMODE(TM) Power Rectifier ORing Function Diode, 3-Pin D2PAK, Tape and Reel; Manufacturer: On Semiconductor; PartNumber: MBRB2515LT4; Configuration: Single; IFSM Max (A): 150; DatasheetVersion: Rev. 6; PackageVersion: Rev. J, 08/2004; PackageReference: D2PAK-3-418B-04_J; PackageDescription: 3-Pin D2PAK, Body 9.145 x 9.97 mm, Pitch 2.54 mm; Supplier 1: Digi-Key; Supplier Part Number 1: MBRB2515LT4OSCT-ND; Packing: Tape and Reel; RoHS: FALSE; Mounting Technology: Surface Mount; ComponentLink1Description: Manufacturer URL; ComponentLink1URL: http://www.onsemi.com/; ComponentLink2Description: Datasheet; ComponentLink2URL: http://www.onsemi.cn/pub_link/Collateral/MBRB2515L-D.PDF; ComponentLink3Description: Package Specification; ComponentLink3URL: http://www.onsemi.com/pub_link/Collateral/BUB323Z-D.PDF
footprint ONSC-D2PAK-3-418B-04_J_V (FM, 3-Leads, Body 9.97x9.145mm, Pitch 2.54mm)
pins: 1 A, 3 A, 4 K

## MBRB2515LT4G
designator D?
SWITCHMODE(TM) Power Rectifier ORing Function Diode, 3-Pin D2PAK, Pb-Free, Tape and Reel; Manufacturer: On Semiconductor; PartNumber: MBRB2515LT4G; Configuration: Single; IFSM Max (A): 150; DatasheetVersion: Rev. 6; PackageVersion: Rev. J, 08/2004; PackageReference: D2PAK-3-418B-04_J; PackageDescription: 3-Pin D2PAK, Body 9.145 x 9.97 mm, Pitch 2.54 mm; Supplier 1: Digi-Key; Supplier Part Number 1: MBRB2515LT4GOSTR-ND; Supplier 2: Digi-Key; Supplier Part Number 2: MBRB2515LT4GOSCT-ND; Supplier 3: Digi-Key; Supplier Part Number 3: MBRB2515LT4GOSDKR-ND; Supplier 4: Farnell; Supplier Part Number 4: 1651125; Supplier 5: Newark; Supplier Part Number 5: 26K3676; Supplier 6: Mouser; Supplier Part Number 6: 863-MBRB2515LT4G; Packing: Tape and Reel; RoHS: TRUE; Mounting Technology: Surface Mount; ComponentLink1Description: Manufacturer URL; ComponentLink1URL: http://www.onsemi.com/; ComponentLink2Description: Datasheet; ComponentLink2URL: http://www.onsemi.cn/pub_link/Collateral/MBRB2515L-D.PDF; ComponentLink3Description: Package Specification; ComponentLink3URL: http://www.onsemi.com/pub_link/Collateral/BUB323Z-D.PDF
footprint ONSC-D2PAK-3-418B-04_J_V (FM, 3-Leads, Body 9.97x9.145mm, Pitch 2.54mm)
pins: 1 A, 3 A, 4 K

## MBRB2535CTLG
designator D?
SWITCHMODE(TM) Power Rectifier, 3-Pin D2PAK, Pb-Free, Tube; Manufacturer: On Semiconductor; PartNumber: MBRB2535CTLG; Configuration: Common Cathode; IFSM Max (A): 150; DatasheetVersion: Rev. 7; PackageVersion: Rev. K, 09/2008; PackageReference: D2PAK-3-418B-04; PackageDescription: 3-Pin Flange Mount, Body 9.145 x 9.97 mm, Pitch 2.54 mm; Supplier 1: Digi-Key; Supplier Part Number 1: MBRB2535CTLGOS-ND; Supplier 2: Newark; Supplier Part Number 2: 45J0777; Supplier 3: Mouser; Supplier Part Number 3: 863-MBRB2535CTLG; Packing: Tube; RoHS: TRUE; Mounting Technology: Surface Mount; ComponentLink1Description: Manufacturer URL; ComponentLink1URL: http://www.onsemi.com/; ComponentLink2Description: Datasheet; ComponentLink2URL: http://www.onsemi.cn/pub_link/Collateral/MBRB2535CTL-D.PDF; ComponentLink3Description: Package Specification; ComponentLink3URL: http://www.onsemi.com/pub_link/Collateral/418B-04.PDF
footprint ONSC-D2PAK-3-418B-04_V (DPAK, 3-Leads, Body 9.97x9.145mm, Pitch 2.54mm)
pins: 1 A1, 3 A2, 4 K

## MBRB2535CTLT4G
designator D?
SWITCHMODE(TM) Power Rectifier, 3-Pin D2PAK, Pb-Free, Tape and Reel; Manufacturer: On Semiconductor; PartNumber: MBRB2535CTLT4G; Configuration: Common Cathode; IFSM Max (A): 150; DatasheetVersion: Rev. 7; PackageVersion: Rev. K, 09/2008; PackageReference: D2PAK-3-418B-04; PackageDescription: 3-Pin Flange Mount, Body 9.145 x 9.97 mm, Pitch 2.54 mm; Supplier 1: Digi-Key; Supplier Part Number 1: MBRB2535CTLT4GOSTR-ND; Supplier 2: Digi-Key; Supplier Part Number 2: MBRB2535CTLT4GOSCT-ND; Supplier 3: Digi-Key; Supplier Part Number 3: MBRB2535CTLT4GOSDKR-ND; Supplier 4: Newark; Supplier Part Number 4: 45J0778; Supplier 5: Mouser; Supplier Part Number 5: 863-MBRB2535CTLT4G; Packing: Tape and Reel; RoHS: TRUE; Mounting Technology: Surface Mount; ComponentLink1Description: Manufacturer URL; ComponentLink1URL: http://www.onsemi.com/; ComponentLink2Description: Datasheet; ComponentLink2URL: http://www.onsemi.cn/pub_link/Collateral/MBRB2535CTL-D.PDF; ComponentLink3Description: Package Specification; ComponentLink3URL: http://www.onsemi.com/pub_link/Collateral/418B-04.PDF
footprint ONSC-D2PAK-3-418B-04_V (DPAK, 3-Leads, Body 9.97x9.145mm, Pitch 2.54mm)
pins: 1 A1, 3 A2, 4 K